# Altium schematic symbol library Ceramic_cap_0804.SchLib: 2 symbols
Pins are listed as number, name and electrical type; pins without a type are passive.

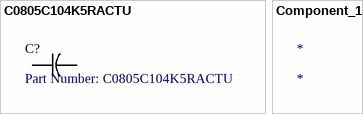
[diagram p0: symbols C0805C104K5RACTU to Component_1]

## C0805C104K5RACTU
designator C?, comment Part Number: C0805C104K5RACTU
No Description Available; Vendor: Kemet; Built_By: EMA_UL_Team; Type: DEV; Manufacturer_Part_Number: C0805C104K5RACTU; Copyright: Copyright (C) 2018 Accelerated Designs. All rights reserved; RefDes: RefDes; Value: Value
footprint CC0805N
pins: 1, 2

## Component_1
designator *